# Altium schematic symbol library Diodes.SCHLIB: 10 symbols
Pins are listed as number, name and electrical type; pins without a type are passive.

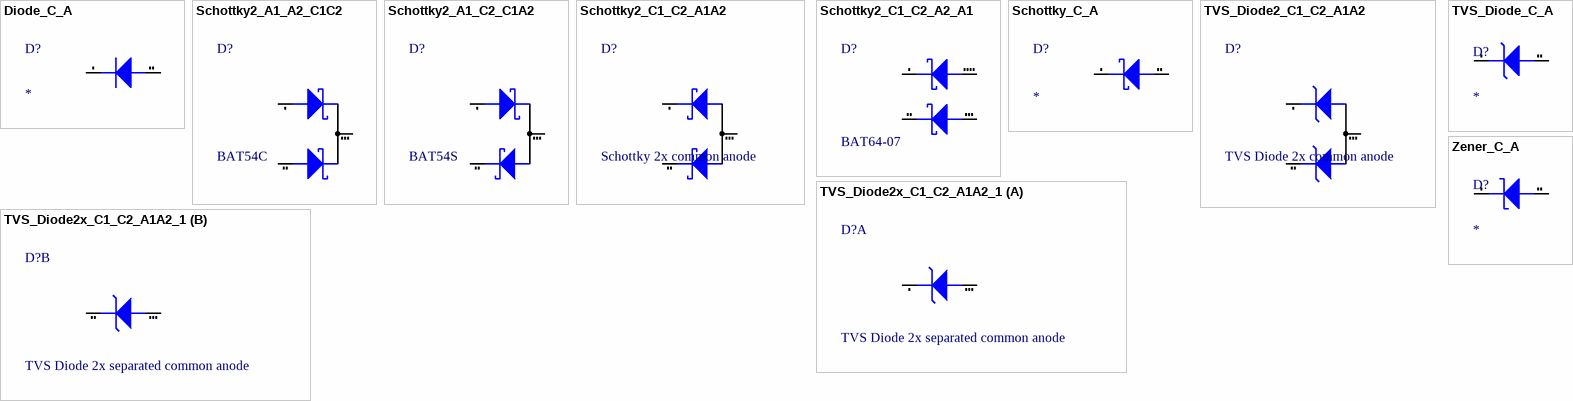
[diagram p0: symbols Diode_C_A to Zener_C_A]

## Diode_C_A
designator D?
Diode
pins: 1 C, 2 A

## Schottky2_A1_A2_C1C2
designator D?, comment BAT54C
Diode Schottky Low signal, dual & common cathode, SOT-23
footprint SOT23-3N (SOT23, 3-Leads, Body 2.9x1.3mm, Pitch 0.95mm, Lead Span 2.5mm, IPC Medium Density)
footprint SOT23-3M (SOT23, 3-Leads, Body 2.9x1.3mm, Pitch 0.95mm, Lead Span 2.5mm, IPC Low Density)
footprint SOT23-3L (SOT23, 3-Leads, Body 2.9x1.3mm, Pitch 0.95mm, Lead Span 2.5mm, IPC High Density)
footprint SOT23_2_G (Footprint not found)
pins: 1 A1, 2 A2, 3 C

## Schottky2_A1_C2_C1A2
designator D?, comment BAT54S
Diode Schottky Low signal, dual & serial, SOT-23
footprint SOT23-3N (SOT23, 3-Leads, Body 2.9x1.3mm, Pitch 0.95mm, Lead Span 2.5mm, IPC Medium Density)
footprint SOT23-3M (SOT23, 3-Leads, Body 2.9x1.3mm, Pitch 0.95mm, Lead Span 2.5mm, IPC Low Density)
footprint SOT23-3L (SOT23, 3-Leads, Body 2.9x1.3mm, Pitch 0.95mm, Lead Span 2.5mm, IPC High Density)
footprint SOT23_2_G (Footprint not found)
pins: 1 A1, 2 C2, 3 C1A2

## Schottky2_C1_C2_A1A2
designator D?, comment Schottky 2x common anode
pins: 1 C1, 2 C2, 3 A

## Schottky2_C1_C2_A2_A1
designator D?, comment BAT64-07
Diode Schottky Low signal, parallel pair
footprint SOT143L (SOT143, 4-Leads, Body 2.9x1.3mm, Pitch 1.9mm, Lead Span 2.5mm, IPC High Density)
footprint SOT143M (SOT143, 4-Leads, Body 2.9x1.3mm, Pitch 1.9mm, Lead Span 2.5mm, IPC Low Density)
footprint SOT143N (SOT143, 4-Leads, Body 2.9x1.3mm, Pitch 1.9mm, Lead Span 2.5mm, IPC Medium Density)
pins: 1 C1, 2 C2, 3 A2, 4 A1

## Schottky_C_A
designator D?
Diode Schottky
pins: 1 C, 2 A

## TVS_Diode2_C1_C2_A1A2
designator D?, comment TVS Diode 2x common anode
pins: 1 C1, 2 C2, 3 A
2 alternate drawings of the same symbol

## TVS_Diode2x_C1_C2_A1A2_1
designator D?, comment TVS Diode 2x separated common anode
part A pins: 1 C1, 3 A
part B pins: 2 C2, 3 A
1 alternate drawing of the same symbol

## TVS_Diode_C_A
designator D?
TVS Diode
pins: 1 C, 2 A

## Zener_C_A
designator D?
Zener Diode
pins: 1 C, 2 A